# Altium footprint library ESMARC V5.0.PcbLib: 59 footprints (part 2 of 4)
Each footprint in its own frame and in the unit in brackets; x right, y up, seen from the top. Pads: shape width x height; smd on the part's side, far side on the other; paste and mask are expansions set on the pad; w line width, h text height; cw(c..) or ccw(c..) is an arc to the next point about the centre after c.
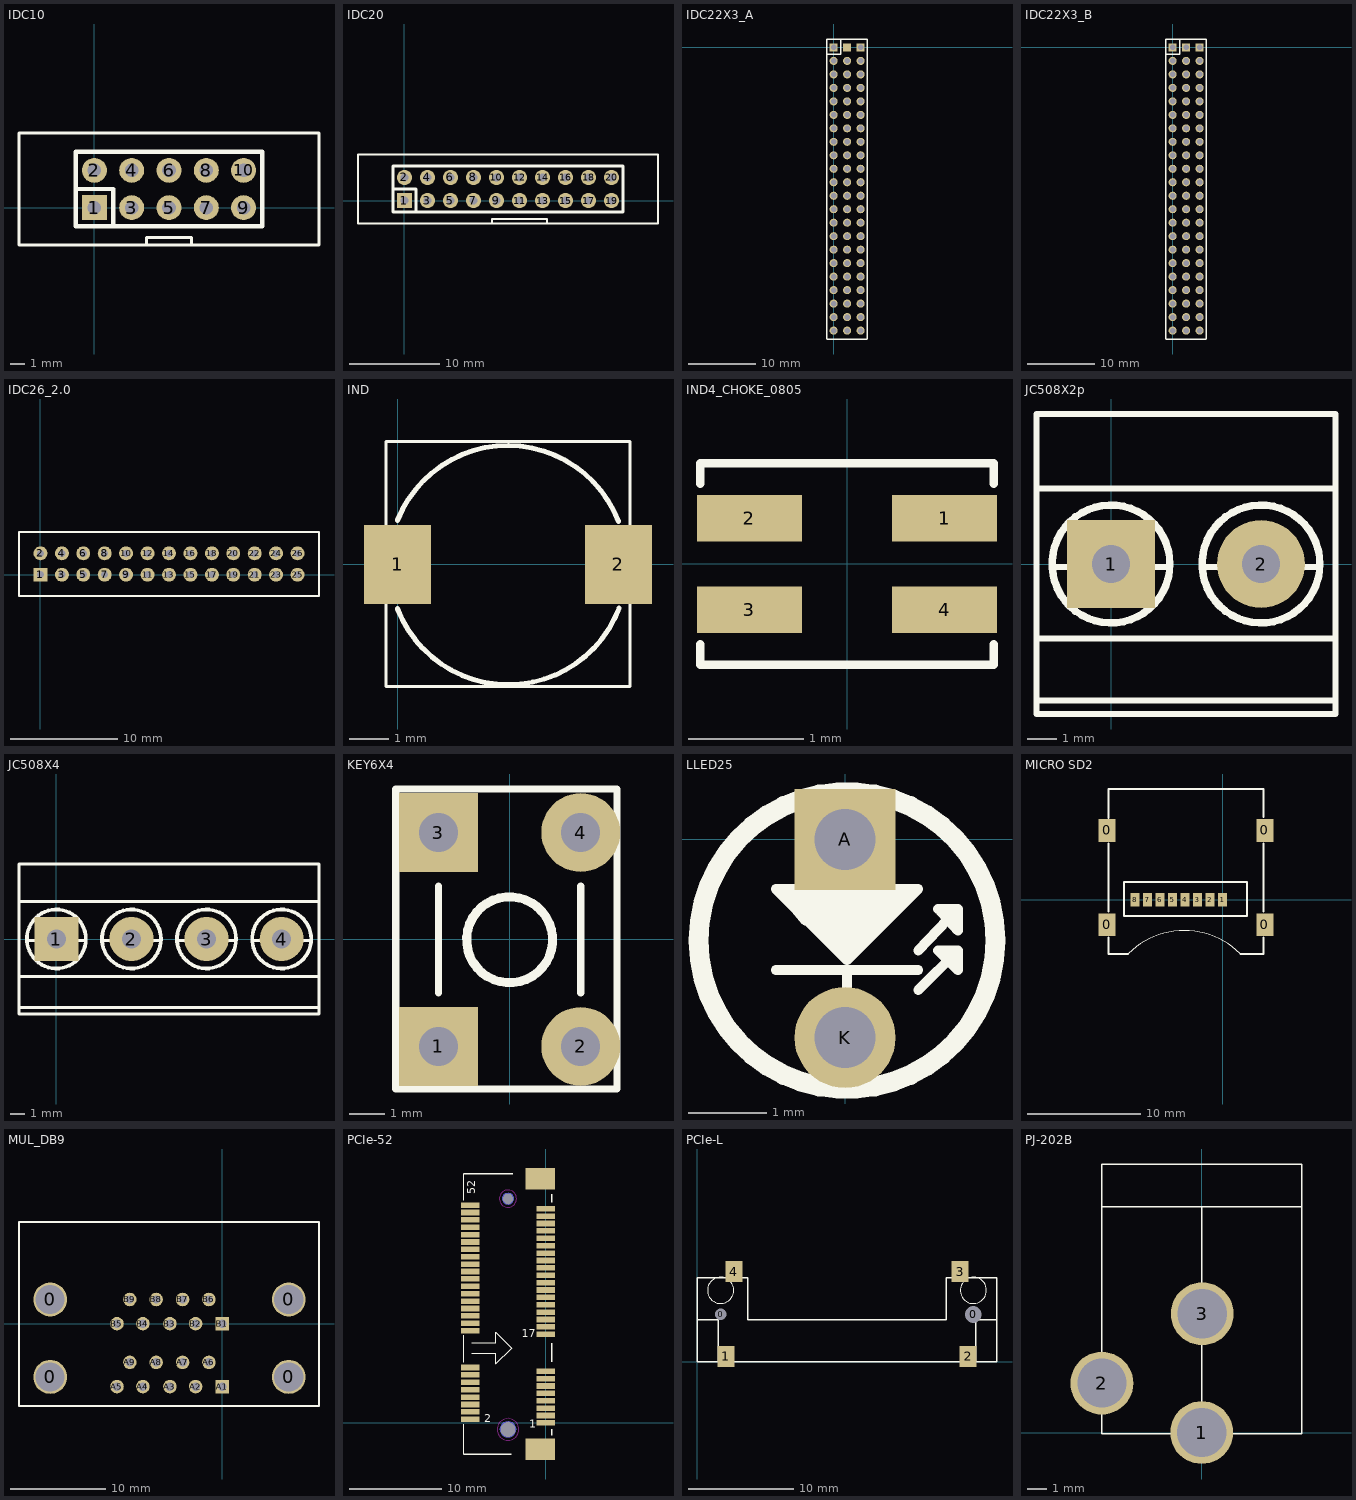
[diagram p1: the footprints below, top view; thin cyan lines are the x and y axes]

## IDC10 [mm]
pads (10):
  rect 1.7x1.7 hole 0.92: 1(0,0)
  round 1.7 hole 0.92: 2(0,2.54) 3(2.54,0) 4(2.54,2.54) 5(5.08,0) 6(5.08,2.54) 7(7.62,0) 8(7.62,2.54) 9(10.16,0) 10(10.16,2.54)
Top Overlay:
  lines w0.203: 3.556,-2.54 3.556,-2.032 6.604,-2.032 6.604,-2.54 ; -5.13,-2.54 15.29,-2.54 15.29,5.08 -5.13,5.08 -5.13,-2.54
  lines w0.305: -1.27,1.27 1.27,1.27 1.27,-1.27 ; -1.27,-1.27 11.43,-1.27 11.43,3.81 -1.27,3.81 -1.27,-1.27

## IDC20 [mm]
pads (20):
  rect 1.7x1.7 hole 0.92: 1(0,0)
  round 1.7 hole 0.92: 2(0,2.54) 3(2.54,0) 4(2.54,2.54) 5(5.08,0) 6(5.08,2.54) 7(7.62,0) 8(7.62,2.54) 9(10.16,0) 10(10.16,2.54) 11(12.7,0) 12(12.7,2.54) 13(15.24,0) 14(15.24,2.54) 15(17.78,0) 16(17.78,2.54) 17(20.32,0) 18(20.32,2.54) 19(22.86,0) 20(22.86,2.54)
Top Overlay:
  lines w0.203: 9.652,-2.54 9.652,-2.032 15.748,-2.032 15.748,-2.54 ; -5.13,-2.54 -5.13,5.08 27.99,5.08 27.99,-2.54 -5.13,-2.54
  lines w0.305: -1.27,1.27 1.27,1.27 1.27,-1.27 ; -1.27,-1.27 -1.27,3.81 24.13,3.81 24.13,-1.27 -1.27,-1.27

## IDC22X3_A [mm]
height 3.81
pads (66):
  rect 1.2x1.2 hole 0.8: A1(0,0) C1(4,0)
  round 1.2 hole 0.8: A2(0,-2) A3(0,-4) A4(0,-6) A5(0,-8) A6(0,-10) A7(0,-12) A8(0,-14) A9(0,-16) A10(0,-18) A11(0,-20) A12(0,-22) A13(0,-24) A14(0,-26) A15(0,-28) A16(0,-30) A17(0,-32) A18(0,-34) A19(0,-36) A20(0,-38) A21(0,-40) A22(0,-42) B2(2,-2) B3(2,-4) B4(2,-6) B5(2,-8) B6(2,-10) B7(2,-12) B8(2,-14) B9(2,-16) B10(2,-18) B11(2,-20) B12(2,-22) B13(2,-24) B14(2,-26) B15(2,-28) B16(2,-30) B17(2,-32) B18(2,-34) B19(2,-36) B20(2,-38) B21(2,-40) B22(2,-42) C2(4,-2) C3(4,-4) C4(4,-6) C5(4,-8) C6(4,-10) C7(4,-12) C8(4,-14) C9(4,-16) C10(4,-18) C11(4,-20) C12(4,-22) C13(4,-24) C14(4,-26) C15(4,-28) C16(4,-30) C17(4,-32) C18(4,-34) C19(4,-36) C20(4,-38) C21(4,-40) C22(4,-42)
  rect 1.2x1.2 all layers, no hole: B1(2,0)
Top Overlay:
  lines w0.203: -1.041,-43.25 4.978,-43.25 ; -1.041,-43.231 -1.041,1.245 ; -1.041,-1.041 1.016,-1.041 1.016,1.219 ; -1.041,1.25 4.978,1.25 ; 5,-43.231 5,1.245
Bottom Overlay:
  lines w0.203: -1.041,-1.041 -1.041,1.016 ; -1.041,-1.041 1.016,-1.041 1.016,1.016 -1.041,1.016 ; -1.041,-1.041 -1.041,1.016

## IDC22X3_B [mm]
pads (66):
  rect 1.2x1.2 hole 0.8: D1(0,0) E1(2,0) F1(4,0)
  round 1.2 hole 0.8: D2(0,-2) D3(0,-4) D4(0,-6) D5(0,-8) D6(0,-10) D7(0,-12) D8(0,-14) D9(0,-16) D10(0,-18) D11(0,-20) D12(0,-22) D13(0,-24) D14(0,-26) D15(0,-28) D16(0,-30) D17(0,-32) D18(0,-34) D19(0,-36) D20(0,-38) D21(0,-40) D22(0,-42) E2(2,-2) E3(2,-4) E4(2,-6) E5(2,-8) E6(2,-10) E7(2,-12) E8(2,-14) E9(2,-16) E10(2,-18) E11(2,-20) E12(2,-22) E13(2,-24) E14(2,-26) E15(2,-28) E16(2,-30) E17(2,-32) E18(2,-34) E19(2,-36) E20(2,-38) E21(2,-40) E22(2,-42) F2(4,-2) F3(4,-4) F4(4,-6) F5(4,-8) F6(4,-10) F7(4,-12) F8(4,-14) F9(4,-16) F10(4,-18) F11(4,-20) F12(4,-22) F13(4,-24) F14(4,-26) F15(4,-28) F16(4,-30) F17(4,-32) F18(4,-34) F19(4,-36) F20(4,-38) F21(4,-40) F22(4,-42)
Top Overlay:
  lines w0.203: -1.041,-43.25 4.978,-43.25 ; -1.041,-43.231 -1.041,1.245 ; -1.041,-1.041 1.016,-1.041 1.016,1.219 ; -1.041,1.25 4.978,1.25 ; 5,-43.231 5,1.245
Bottom Overlay:
  lines w0.203: -1.041,-1.041 -1.041,1.016 ; -1.041,-1.041 1.016,-1.041 1.016,1.016 -1.041,1.016 ; -1.041,-1.041 -1.041,1.016

## IDC26_2.0 [mm]
pads (26):
  rect 1.3x1.3 hole 0.65: 1(0,0)
  round 1.3 hole 0.65: 2(0,2) 3(2,0) 4(2,2) 5(4,0) 6(4,2) 7(6,0) 8(6,2) 9(8,0) 10(8,2) 11(10,0) 12(10,2) 13(12,0) 14(12,2) 15(14,0) 16(14,2) 17(16,0) 18(16,2) 19(18,0) 20(18,2) 21(20,0) 22(20,2) 23(22,0) 24(22,2) 25(24,0) 26(24,2)
Top Overlay:
  lines w0.203: -2,-2 -2,4 26,4 26,-2 -2,-2

## IND [mm]
pads (2):
  rect 1.7x2 smd: 1(0,0) 2(5.588,0)
Top Overlay:
  lines w0.076: -0.291,-3.085 -0.291,3.11 5.879,3.11 5.879,-3.085 -0.291,-3.085
  lines w0.127: 0,-1.118 ccw(c2.8,-0.041) 5.607,-1.099 ; 0,1.118 cw(c2.789,0.011) 5.589,1.088

## IND4_CHOKE_0805 [mil] "IND4_CHOKE_0805"
pads (4):
  rect 36x16 smd: 1(33.46,15.75) 2(-33.46,15.75) 3(-33.46,-15.75) 4(33.46,-15.75)
Top Overlay:
  lines w3: -50.31,-27.56 -50.31,-34.56 50.31,-34.56 50.31,-27.56 ; -50.31,27.56 -50.31,34.56 50.31,34.56 50.31,27.56

## JC508X2p [mil]
pads (2):
  rect 118x118 hole 51: 1(0,0)
  round 118 hole 51: 2(201,0)
Top Overlay:
  circle w10: c0,0 r79
  circle w10: c201,0 r79
  lines w8: -100,-183 301,-183 ; -75,-4 79,-4 ; 124,-4 278,-4 ; 301,-100 -100,-100 ; 301,101 -100,101 ; -100,-100 -100,101 ; -100,-100 -100,-201 301,-201 301,201 -100,201 -100,101

## JC508X4 [mil]
pads (4):
  rect 118x118 hole 51: 1(0,0)
  round 118 hole 51: 2(201,0) 3(402,0) 4(603,0)
Top Overlay:
  circle w10: c603,0 r79
  circle w10: c402,0 r79
  circle w10: c201,0 r79
  circle w10: c0,0 r79
  lines w8: -100,-183 699,-183 ; -75,-4 79,-4 ; 124,-4 278,-4 ; 325,-4 479,-4 ; 526,-4 679,-4 ; -100,-100 -100,-201 703,-201 703,-100 ; -100,-100 703,-100 ; -100,-100 -100,101 ; -100,101 -100,201 703,201 703,101 ; -100,101 703,101 ; 703,-100 703,101

## KEY6X4 [mil]
pads (4):
  rect 87x87 hole 43: 1(-78.5,-118) 3(-78.5,118)
  round 87 hole 43: 2(78.5,-118) 4(78.5,118)
Top Overlay:
  lines w8: -78.5,-59 -78.5,59 ; 78.5,-59 78.5,59 ; -125.5,-165 118.5,-165 118.5,166 -125.5,166 -125.5,-165
  lines w10: 47.24,3.94 ccw(c0.03,-0.35) 47.28,3.58

## LLED25 [mil]
height 39.37
pads (2):
  rect 51x51 hole 31: A(0,0)
  round 51 hole 31: K(0,-100)
Top Overlay:
  circle w10: c1,-51 r75
  lines w5: -35,-66 37,-66 ; -30,-28 -22,-28 ; -25,-30 31,-30 26,-35 -20,-35 -25,-35 -20,-41 21,-41 21,-38 -20,-38 -10,-46 15,-46 11,-50 -6,-50 -2,-54 6,-54 2,-58 ; 1,-76 1,-66 ; 1,-25 1,-15 ; 37,-76 57,-56 ; 37,-56 57,-35 ; 57,-56 57,-66 47,-56 57,-56 ; 57,-35 57,-46 47,-35 57,-35 ; -35,-25 37,-25 1,-61 -35,-25

## MICRO SD2 [mm]
pads (12):
  rect 1.5x2 smd: 0(-10.17,-2.2) 0(-10.17,6.1) 0(3.72,-2.2) 0(3.72,6.1)
  rect 0.8x1.2 smd: 1(0,0) 2(-1.1,0) 3(-2.2,0) 4(-3.3,0) 5(-4.4,0) 6(-5.5,0) 7(-6.6,0) 8(-7.7,0)
Top Overlay:
  lines w0.076: -8.306,-4.75 cw(c-3.378,-9.678) 1.549,-4.75
  lines w0.175: -10.025,-3.302 -10.025,-4.75 -8.306,-4.75 ; -10.025,-1.041 -10.025,4.953 ; -10.025,7.188 -10.025,9.75 ; 1.549,-4.75 3.575,-4.75 3.575,-3.327 ; 3.575,-1.016 3.575,4.953 ; 3.575,7.264 3.575,9.75 ; -10.025,9.75 3.575,9.75 ; -10.025,9.75 3.575,9.75 ; -8.687,-1.422 -8.687,1.549 2.159,1.549 2.159,-1.422 -8.687,-1.422

## MUL_DB9 [mil]
pads (22):
  round 140 hole 120: 0(-711,-220) 0(-711,100) 0(275,-220) 0(275,100)
  rect 56x56 hole 35: A1(0,-260) B1(0,0)
  round 56 hole 35: A2(-110,-260) A3(-216,-260) A4(-328,-260) A5(-435,-260) A6(-55,-160) A7(-164,-160) A8(-273,-160) A9(-382,-160) B2(-110,0) B3(-216,0) B4(-328,0) B5(-435,0) B6(-55,100) B7(-164,100) B8(-273,100) B9(-382,100)
Top Overlay:
  lines w8: -840,-340 400,-340 400,420 -840,420 -840,-340

## PCIe-52 [mil]
pads (56):
  rect 79x24 smd: 1(0,0) 2(-322.84,15.75) 3(0,31.5) 4(-322.84,47.25) 5(0,63) 6(-322.84,78.74) 7(0,94.49) 8(-322.84,110.24) 9(0,125.99) 10(-322.84,141.74) 11(0,157.48) 12(-322.84,173.23) 13(0,188.98) 14(-322.84,204.73) 15(0,220.48) 16(-322.84,236.22) 17(0,377.96) 18(-322.84,393.7) 19(0,409.45) 20(-322.84,425.2) 21(0,440.95) 22(-322.84,456.7) 23(0,472.44) 24(-322.84,488.19) 25(0,503.94) 26(-322.84,519.69) 27(0,535.44) 28(-322.84,551.18) 29(0,566.93) 30(-322.84,582.68) 31(0,598.43) 32(-322.84,614.18) 33(0,629.92) 34(-322.84,645.67) 35(0,661.42) 36(-322.84,677.17) 37(0,692.92) 38(-322.84,708.66) 39(0,724.41) 40(-322.84,740.16) 41(0,755.91) 42(-322.84,771.66) 43(0,787.4) 44(-322.84,803.15) 45(0,818.9) 46(-322.84,834.65) 47(0,850.4) 48(-322.84,866.14) 49(0,881.89) 50(-322.84,897.64) 51(0,913.39) 52(-322.84,929.14)
  round 10 hole 63: " "(-161.42,-27.56)
  round 10 hole 44: " "(-161.42,956.7)
  rect 126x91 smd: " "(-23.62,-112.2) " "(-23.62,1041.34)
Bottom Layer:
  region: -127.15,-27.56 -128.31,-18.69 -131.74,-10.42 -137.19,-3.33 -144.28,2.12 -152.55,5.55 -161.42,6.71 -170.29,5.55 -178.56,2.12 -185.65,-3.33 -191.1,-10.42 -194.53,-18.69 -195.69,-27.56 -194.53,-36.43 -191.1,-44.7 -185.65,-51.79 -178.56,-57.24 -170.29,-60.67 -161.42,-61.83 -152.55,-60.67 -144.28,-57.24 -137.19,-51.79 -131.74,-44.7 -128.31,-36.43
  region: -136.17,956.7 -138.1,966.36 -143.57,974.55 -151.76,980.02 -161.42,981.95 -171.08,980.02 -179.27,974.55 -184.74,966.36 -186.67,956.7 -184.74,947.04 -179.27,938.85 -171.08,933.38 -161.42,931.45 -151.76,933.38 -143.57,938.85 -138.1,947.04
Top Overlay:
  lines w5: -350,-133.96 -350,-5 ; -350,258 -350,375 ; -350,950 -350,1063.08 ; -315,297 -213,297 -213,252 -146,319 -213,386 -213,342 -315,342
  lines w6: -350,-133.96 -147.3,-133.96 ; -350,1063.08 -140.25,1063.08 ; 25.66,-52.02 25.66,-27.57 ; 26.16,339.51 26.16,261.35 ; 26.17,940.8 26.17,974.33 ; 26.16,261.35 26.17,261.35
  text "17" at -103,366 h35
  text "52" at -301,975 h35
  text "1" at -70,-20 h35
  text "2" at -263,3 h35
Mechanical 16:
  pour cut-out: -127.15,-27.56 -128.31,-18.69 -131.74,-10.42 -137.19,-3.33 -144.28,2.12 -152.55,5.55 -161.42,6.71 -170.29,5.55 -178.56,2.12 -185.65,-3.33 -191.1,-10.42 -194.53,-18.69 -195.69,-27.56 -194.53,-36.43 -191.1,-44.7 -185.65,-51.79 -178.56,-57.24 -170.29,-60.67 -161.42,-61.83 -152.55,-60.67 -144.28,-57.24 -137.19,-51.79 -131.74,-44.7 -128.31,-36.43
  pour cut-out: -136.17,956.7 -138.1,966.36 -143.57,974.55 -151.76,980.02 -161.42,981.95 -171.08,980.02 -179.27,974.55 -184.74,966.36 -186.67,956.7 -184.74,947.04 -179.27,938.85 -171.08,933.38 -161.42,931.45 -151.76,933.38 -143.57,938.85 -138.1,947.04
Multi-Layer keep-out:
  circle w1: c-161.42,-27.56 r46.45
  circle w1: c-161.42,956.7 r36.62
Mechanical 25:
  text "9" at -4,125.99 h10
  text "15" at -8,220.48 h10
  text "21" at -8,440.95 h10
  text "27" at -8,535.44 h10
  text "29" at -8,566.93 h10
  text "35" at -8,661.42 h10
  text "37" at -8,692.92 h10
  text "43" at -8,787.4 h10
  text "4" at -326.84,47.25 h10
  text "18" at -330.84,393.7 h10
  text "26" at -330.84,519.69 h10
  text "34" at -330.84,645.67 h10
  text "40" at -330.84,740.16 h10
  text "50" at -330.84,897.64 h10
  text "1" at -4,0 h10
  text "17" at -8,377.96 h10
  text "19" at -8,409.45 h10
  text "45" at -8,818.9 h10
  text "47" at -8,850.4 h10
  text "49" at -8,881.89 h10
  text "51" at -8,913.39 h10
  text "42" at -330.84,771.66 h10
  text "44" at -330.84,803.15 h10
  text "46" at -330.84,834.65 h10
  text "32" at -330.84,614.18 h10
  text "30" at -330.84,582.68 h10
  text "16" at -330.84,236.22 h10
  text "14" at -330.84,204.73 h10
  text "8" at -326.84,110.24 h10
  text "10" at -330.84,141.74 h10
  text "12" at -330.84,173.23 h10
  text "6" at -326.84,78.74 h10
  text "28" at -330.84,551.18 h10
  text "48" at -330.84,866.14 h10
  text "23" at -8,472.44 h10
  text "13" at -8,188.98 h10
  text "25" at -8,503.94 h10
  text "5" at -4,63 h10
  text "31" at -8,598.43 h10
  text "11" at -8,157.48 h10
  text "33" at -8,629.92 h10
  text "3" at -4,31.5 h10
  text "38" at -330.84,708.66 h10
  text "36" at -330.84,677.17 h10
  text "7" at -4,94.49 h10
  text "39" at -8,724.41 h10
  text "41" at -8,755.91 h10
  text "2" at -326.84,15.75 h10
  text "24" at -330.84,488.19 h10
  text "52" at -330.84,929.14 h10
  text "20" at -330.84,425.2 h10
  text "22" at -330.84,456.7 h10
Mechanical 32:
  text "17" at -14.52,374.57 h10
  text "15" at -10.52,215.57 h10
  text "52" at -327.52,926.57 h10
  text "51" at -8.52,909.57 h10
  text "2" at -324.52,9.57 h10
  text "1" at -7.52,-4.43 h10

## PCIe-L [mm]
pads (6):
  round 1 hole 1.1: 0(2.239,4.5)
  round 1.4 hole 1.6: 0(26.239,4.5)
  rect 1.6x2 smd: 1(2.75,0.508) 2(25.75,0.508) 3(25,8.56) 4(3.5,8.56)
Top Overlay:
  circle w0.076: c2.25,6.782 r1.25
  circle w0.076: c26.25,6.782 r1.25
  lines w0.127: 0,4 2,4 2,0 ; 0,8 0,0 28.5,0 28.5,8 ; 0,8.001 4.8,8.001 ; 4.8,8 4.8,4 23.698,4 23.698,8 ; 23.698,8.001 28.498,8.001 ; 26.5,0 26.5,4 28.5,4

## PJ-202B [mm]
height 3.81
pads (3):
  round 3.2 hole 2.5: 1(0,0) 2(-5.08,2.515) 3(0.025,6.045)
Top Overlay:
  lines w0.076: -5.08,11.481 5.08,11.481 ; -4.064,-0.051 4.064,-0.051 ; 0,-0.051 0,11.481 ; -5.08,-0.051 -5.08,13.665 5.08,13.665 5.08,-0.051 -5.08,-0.051